# Altium footprint library Misc.TH.PcbLib: 66 footprints (part 4 of 5)
Each footprint in its own frame and in the unit in brackets; x right, y up, seen from the top. Pads: shape width x height; smd on the part's side, far side on the other; paste and mask are expansions set on the pad; w line width, h text height; cw(c..) or ccw(c..) is an arc to the next point about the centre after c.
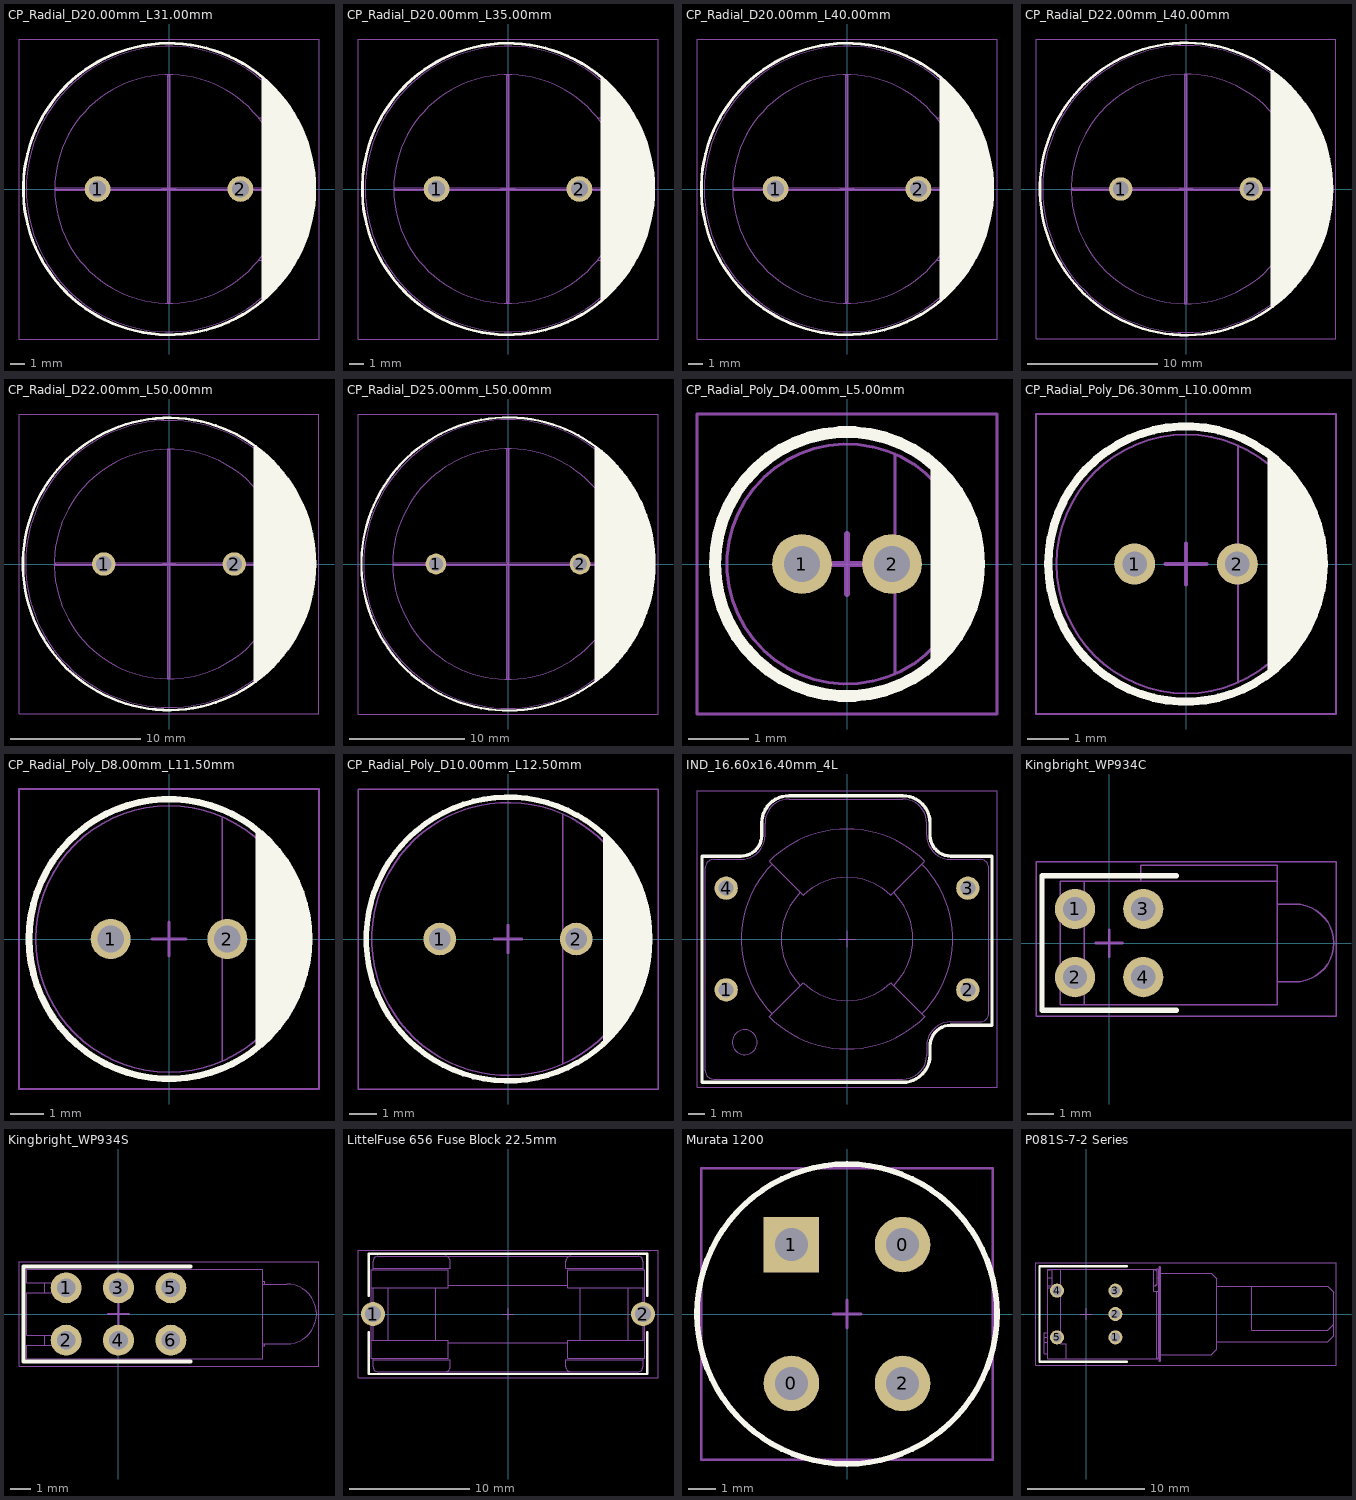
[diagram p3: the footprints below, top view; thin cyan lines are the x and y axes]

## CP_Radial_D20.00mm_L31.00mm [mm] "Radial Capacitor, Diameter 20.00mm, Length 31.00mm, Pitch 10.00mm"
height 31
pads (2):
  round 1.8 hole 1.2: 1(-5,0) 2(5,0)
Top Overlay:
  circle w0.2: c0,0 r10.2
  region: 6.5,7.8 6.5,-7.9 6.846,-7.615 7.485,-6.985 8.066,-6.301 8.585,-5.57 9.037,-4.795 9.42,-3.983 9.73,-3.141 9.964,-2.275 10.121,-1.392 10.2,-0.499 10.2,0.399 10.121,1.292 9.964,2.175 9.73,3.041 9.42,3.883 9.037,4.695 8.585,5.47 8.066,6.201 7.485,6.885 6.846,7.515
Mechanical 1:
  circle w0.05: c0,0 r8
  circle w0.05: c0,0 r10
  lines w0.05: 6.245,-5 8.078,-5 8.66,-5 ; 6.245,5 8.078,5 8.66,5 ; -7.9,0 -7.999,-0.1 -0.1,-0.1 ; -7.9,0 -7.999,0.1 -0.1,0.1 ; -7.9,0 7.9,0 ; -0.1,-0.1 -0.1,-7.999 0,-7.9 ; -0.1,-0.1 0.1,0.1 ; -0.1,0.1 0.1,-0.1 ; -0.1,0.1 -0.1,7.999 0,7.9 ; 0,-7.9 0.1,-7.999 0.1,-0.1 ; 0,-7.9 0,7.9 ; 0,7.9 0.1,7.999 0.1,0.1 ; 0.1,-0.1 7.999,-0.1 7.9,0 ; 0.1,0.1 7.999,0.1 7.9,0
Mechanical 15:
  lines w0.05: -10.5,-10.5 10.5,-10.5 10.5,10.5 -10.5,10.5 -10.5,-10.5
  lines w0.1: -0.5,0 0.5,0 ; 0,-0.5 0,0.5
3D body "Capacitor_Radial_D20.00mm_L31.00mm_P10.00mm.STEP": height 31, standoff -3.2, extent -9.983,-10 10,10

## CP_Radial_D20.00mm_L35.00mm [mm] "Radial Capacitor, Diameter 20.00mm, Length 35.00mm, Pitch 10.00mm"
height 35
pads (2):
  round 1.8 hole 1.2: 1(-5,0) 2(5,0)
Top Overlay:
  circle w0.2: c0,0 r10.2
  region: 6.5,7.8 6.5,-7.9 6.846,-7.615 7.485,-6.985 8.066,-6.301 8.585,-5.57 9.037,-4.795 9.42,-3.983 9.73,-3.141 9.964,-2.275 10.121,-1.392 10.2,-0.499 10.2,0.399 10.121,1.292 9.964,2.175 9.73,3.041 9.42,3.883 9.037,4.695 8.585,5.47 8.066,6.201 7.485,6.885 6.846,7.515
Mechanical 1:
  circle w0.05: c0,0 r10
  circle w0.05: c0,0 r8
  lines w0.05: 6.245,-5 8.078,-5 8.66,-5 ; 6.245,5 8.078,5 8.66,5 ; -7.9,0 7.9,0 ; -7.9,0 -7.999,0.1 -0.1,0.1 ; -7.9,0 -7.999,-0.1 -0.1,-0.1 ; -0.1,-0.1 0.1,0.1 ; -0.1,-0.1 -0.1,-7.999 0,-7.9 ; -0.1,0.1 -0.1,7.999 0,7.9 ; -0.1,0.1 0.1,-0.1 ; 0,-7.9 0,7.9 ; 0,-7.9 0.1,-7.999 0.1,-0.1 ; 0,7.9 0.1,7.999 0.1,0.1 ; 0.1,-0.1 7.999,-0.1 7.9,0 ; 0.1,0.1 7.999,0.1 7.9,0
Mechanical 15:
  lines w0.05: -10.5,-10.5 -10.5,10.5 10.5,10.5 10.5,-10.5 -10.5,-10.5
  lines w0.1: -0.5,0 0.5,0 ; 0,-0.5 0,0.5
3D body "Capacitor_Radial_D20.00mm_L35.00mm_P10.00mm.STEP": height 35, standoff -3.2, extent -10,-10 9.998,10

## CP_Radial_D20.00mm_L40.00mm [mm] "Radial Capacitor, Diameter 20.00mm, Length 40.00mm, Pitch 10.00mm"
height 40
pads (2):
  round 1.8 hole 1.2: 1(-5,0) 2(5,0)
Top Overlay:
  circle w0.2: c0,0 r10.2
  region: 6.5,7.8 6.5,-7.9 6.846,-7.615 7.485,-6.985 8.066,-6.301 8.585,-5.57 9.037,-4.795 9.42,-3.983 9.73,-3.141 9.964,-2.275 10.121,-1.392 10.2,-0.499 10.2,0.399 10.121,1.292 9.964,2.175 9.73,3.041 9.42,3.883 9.037,4.695 8.585,5.47 8.066,6.201 7.485,6.885 6.846,7.515
Mechanical 1:
  circle w0.05: c0,0 r8
  circle w0.05: c0,0 r10
  lines w0.05: 6.245,-5 8.078,-5 8.66,-5 ; 6.245,5 8.078,5 8.66,5 ; -7.9,0 -7.999,-0.1 -0.1,-0.1 ; -7.9,0 -7.999,0.1 -0.1,0.1 ; -7.9,0 7.9,0 ; -0.1,-0.1 -0.1,-7.999 0,-7.9 ; -0.1,-0.1 0.1,0.1 ; -0.1,0.1 0.1,-0.1 ; -0.1,0.1 -0.1,7.999 0,7.9 ; 0,-7.9 0.1,-7.999 0.1,-0.1 ; 0,-7.9 0,7.9 ; 0,7.9 0.1,7.999 0.1,0.1 ; 0.1,-0.1 7.999,-0.1 7.9,0 ; 0.1,0.1 7.999,0.1 7.9,0
Mechanical 15:
  lines w0.05: -10.5,-10.5 10.5,-10.5 10.5,10.5 -10.5,10.5 -10.5,-10.5
  lines w0.1: -0.5,0 0.5,0 ; 0,-0.5 0,0.5
3D body "Capacitor_Radial_D20.00mm_L40.00mm_P10.00mm.STEP": height 40, standoff -3.2, extent -10,-10 10,10

## CP_Radial_D22.00mm_L40.00mm [mm] "Radial Capacitor, Diameter 22.00mm, Length 40.00mm, Pitch 10.00mm"
height 40
pads (2):
  round 1.8 hole 1.2: 1(-5,0) 2(5,0)
Top Overlay:
  circle w0.2: c0,0 r11.2
  region: 6.5,9.1 6.5,-9.1 6.934,-8.792 7.74,-8.096 8.476,-7.326 9.135,-6.489 9.711,-5.594 10.2,-4.648 10.596,-3.66 10.897,-2.638 11.099,-1.592 11.2,-0.532 11.2,0.532 11.099,1.592 10.897,2.638 10.596,3.66 10.2,4.648 9.711,5.594 9.135,6.489 8.476,7.326 7.74,8.096 6.934,8.792
Mechanical 1:
  circle w0.05: c0,0 r11
  circle w0.05: c0,0 r8.8
  lines w0.05: 6.869,-5.5 8.886,-5.5 9.526,-5.5 ; 6.869,5.5 8.886,5.5 9.526,5.5 ; -8.7,0 8.7,0 ; -8.7,0 -8.799,0.1 -0.1,0.1 ; -8.7,0 -8.799,-0.1 -0.1,-0.1 ; -0.1,-0.1 0.1,0.1 ; -0.1,-0.1 -0.1,-8.799 0,-8.7 ; -0.1,0.1 -0.1,8.799 0,8.7 ; -0.1,0.1 0.1,-0.1 ; 0,-8.7 0,8.7 ; 0,-8.7 0.1,-8.799 0.1,-0.1 ; 0,8.7 0.1,8.799 0.1,0.1 ; 0.1,-0.1 8.799,-0.1 8.7,0 ; 0.1,0.1 8.799,0.1 8.7,0
Mechanical 15:
  lines w0.05: -11.5,-11.5 -11.5,11.5 11.5,11.5 11.5,-11.5 -11.5,-11.5
  lines w0.1: -0.5,0 0.5,0 ; 0,-0.5 0,0.5
3D body "Capacitor_Radial_D22.00mm_L40.00mm_P10.00mm.STEP": height 40, standoff -3.2, extent -11,-11 11,11

## CP_Radial_D22.00mm_L50.00mm [mm] "Radial Capacitor, Diameter 22.00mm, Length 50.00mm, Pitch 10.00mm"
height 50
pads (2):
  round 1.8 hole 1.2: 1(-5,0) 2(5,0)
Top Overlay:
  circle w0.2: c0,0 r11.2
  region: 6.5,9.1 6.5,-9.1 6.934,-8.792 7.74,-8.096 8.476,-7.326 9.135,-6.489 9.711,-5.594 10.2,-4.648 10.596,-3.66 10.897,-2.638 11.099,-1.592 11.2,-0.532 11.2,0.532 11.099,1.592 10.897,2.638 10.596,3.66 10.2,4.648 9.711,5.594 9.135,6.489 8.476,7.326 7.74,8.096 6.934,8.792
Mechanical 1:
  circle w0.05: c0,0 r11
  circle w0.05: c0,0 r8.8
  lines w0.05: 6.869,-5.5 8.886,-5.5 9.526,-5.5 ; 6.869,5.5 8.886,5.5 9.526,5.5 ; -8.7,0 8.7,0 ; -8.7,0 -8.799,0.1 -0.1,0.1 ; -8.7,0 -8.799,-0.1 -0.1,-0.1 ; -0.1,-0.1 0.1,0.1 ; -0.1,-0.1 -0.1,-8.799 0,-8.7 ; -0.1,0.1 -0.1,8.799 0,8.7 ; -0.1,0.1 0.1,-0.1 ; 0,-8.7 0,8.7 ; 0,-8.7 0.1,-8.799 0.1,-0.1 ; 0,8.7 0.1,8.799 0.1,0.1 ; 0.1,-0.1 8.799,-0.1 8.7,0 ; 0.1,0.1 8.799,0.1 8.7,0
Mechanical 15:
  lines w0.05: -11.5,-11.5 -11.5,11.5 11.5,11.5 11.5,-11.5 -11.5,-11.5
  lines w0.1: -0.5,0 0.5,0 ; 0,-0.5 0,0.5
3D body "Capacitor_Radial_D22.00mm_L50.00mm_P10.00mm.STEP": height 50, standoff -3.2, extent -10.974,-11 11,11

## CP_Radial_D25.00mm_L50.00mm [mm] "Radial Capacitor, Diameter 25.00mm, Length 50.00mm, Pitch 12.50mm"
height 50
pads (2):
  round 1.8 hole 1.2: 1(-6.25,0) 2(6.25,0)
Top Overlay:
  circle w0.2: c0,0 r12.7
  region: 7.5,10.2 7.5,-10.2 7.901,-9.909 8.655,-9.266 9.356,-8.565 9.999,-7.812 10.582,-7.011 11.1,-6.166 11.55,-5.283 11.929,-4.368 12.236,-3.425 12.467,-2.462 12.622,-1.483 12.7,-0.495 12.7,0.495 12.622,1.483 12.467,2.462 12.236,3.425 11.929,4.368 11.55,5.283 11.1,6.166 10.582,7.011 9.999,7.812 9.356,8.565 8.655,9.266 7.901,9.909
Mechanical 1:
  circle w0.05: c0,0 r10
  circle w0.05: c0,0 r12.5
  lines w0.05: 7.806,-6.25 10.097,-6.25 10.825,-6.25 ; 7.806,6.25 10.097,6.25 10.825,6.25 ; -9.9,0 -9.999,-0.1 -0.1,-0.1 ; -9.9,0 -9.999,0.1 -0.1,0.1 ; -9.9,0 9.9,0 ; -0.1,-0.1 -0.1,-9.999 0,-9.9 ; -0.1,-0.1 0.1,0.1 ; -0.1,0.1 0.1,-0.1 ; -0.1,0.1 -0.1,9.999 0,9.9 ; 0,-9.9 0.1,-9.999 0.1,-0.1 ; 0,-9.9 0,9.9 ; 0,9.9 0.1,9.999 0.1,0.1 ; 0.1,-0.1 9.999,-0.1 9.9,0 ; 0.1,0.1 9.999,0.1 9.9,0
Mechanical 15:
  lines w0.05: -13,-13 -13,13 13,13 13,-13 -13,-13
  lines w0.1: -0.5,0 0.5,0 ; 0,-0.5 0,0.5
3D body "Capacitor_Radial_D25.00mm_L50.00mm_P12.50mm.STEP": height 50, standoff -3.2, extent -12.484,-12.5 12.5,12.5

## CP_Radial_Poly_D4.00mm_L5.00mm [mm] "Radial Polymer Capacitor, Diameter 4.00mm, Length 5.00mm, Pitch 1.50mm"
height 5
pads (2):
  round 1 hole 0.6: 1(-0.75,0) 2(0.75,0)
Top Overlay:
  circle w0.2: c0,0 r2.2
  region: 1.4,1.7 1.525,1.597 1.742,1.356 1.921,1.086 2.059,0.793 2.153,0.483 2.2,0.162 2.2,-0.162 2.153,-0.483 2.059,-0.793 1.921,-1.086 1.742,-1.356 1.525,-1.597 1.4,-1.7
Mechanical 1:
  circle w0.05: c0,0 r2
  lines w0.05: 0.8,-1.833 0.8,-1.831 0.8,-1.827 0.8,-1.81 0.8,-1.784 0.8,-1.751 0.8,-1.723 0.8,1.723 0.8,1.752 0.8,1.789 0.8,1.816 0.8,1.83 0.8,1.833
Mechanical 15:
  lines w0.05: -2.5,-2.5 2.5,-2.5 2.5,2.5 -2.5,2.5 -2.5,-2.5
  lines w0.1: -0.5,0 0.5,0 ; 0,-0.5 0,0.5
3D body "Capacitor_Radial_Poly_D4.00mm_L5.00mm_P1.5mm.STEP": height 5, standoff -3.2, extent -1.995,-2 1.995,2

## CP_Radial_Poly_D6.30mm_L10.00mm [mm] "Radial Polymer Capacitor, Diameter 6.30mm, Length 10.00mm, Pitch 2.50mm"
height 10
pads (2):
  round 1 hole 0.6: 1(-1.25,0) 2(1.25,0)
Top Overlay:
  circle w0.2: c0,0 r3.35
  region: 1.994,2.692 2.204,2.537 2.57,2.165 2.874,1.74 3.109,1.274 3.269,0.777 3.35,0.261 3.35,-0.261 3.269,-0.777 3.109,-1.274 2.874,-1.74 2.57,-2.165 2.204,-2.537 1.994,-2.692
Mechanical 1:
  circle w0.05: c0,0 r3.15
  lines w0.05: 1.26,-2.887 1.26,-2.714 1.26,2.714 1.26,2.887
Mechanical 15:
  lines w0.05: -3.65,-3.65 -3.65,3.65 3.65,3.65 3.65,-3.65 -3.65,-3.65
  lines w0.1: -0.5,0 0.5,0 ; 0,-0.5 0,0.5
3D body "Capacitor_Radial_Poly_D6.30mm_L10.00mm_P2.5mm.STEP": height 10, standoff -3.2, extent -3.15,-3.15 3.15,3.15

## CP_Radial_Poly_D8.00mm_L11.50mm [mm] "Radial Capacitor, Diameter 8.00mm, Length 11.50mm, Pitch 3.50mm"
height 11.5
pads (2):
  round 1.2 hole 0.8: 1(-1.75,0) 2(1.75,0)
Top Overlay:
  circle w0.2: c0,0 r4.2
  region: 2.599,3.299 2.848,3.103 3.281,2.641 3.64,2.118 3.917,1.548 4.105,0.943 4.2,0.317 4.2,-0.317 4.105,-0.943 3.917,-1.548 3.64,-2.118 3.281,-2.641 2.848,-3.103 2.599,-3.299
Mechanical 1:
  circle w0.05: c0,0 r4
  lines w0.05: 1.6,-3.666 1.6,-3.447 1.6,3.447 1.6,3.666
Mechanical 15:
  lines w0.05: -4.5,-4.5 -4.5,4.5 4.5,4.5 4.5,-4.5 -4.5,-4.5
  lines w0.1: -0.5,0 0.5,0 ; 0,-0.5 0,0.5
3D body "Capacitor_Radial_Poly_D8.00mm_L11.50mm_P3.5mm.STEP": height 11.5, standoff -3.2, extent -4,-4 4,4

## CP_Radial_Poly_D10.00mm_L12.50mm [mm] "Radial Capacitor, Diameter 10.00mm, Length 12.50mm, Pitch 5.00mm"
height 12.5
pads (2):
  round 1.2 hole 0.8: 1(-2.5,0) 2(2.5,0)
Top Overlay:
  circle w0.2: c0,0 r5.2
  region: 3.5,3.8 3.767,3.561 4.229,3.014 4.609,2.408 4.902,1.755 5.1,1.067 5.2,0.358 5.2,-0.358 5.1,-1.067 4.902,-1.755 4.609,-2.408 4.229,-3.014 3.767,-3.561 3.5,-3.8
Mechanical 1:
  circle w0.05: c0,0 r5
  lines w0.05: 2,-4.583 2,-4.308 2,4.308 2,4.583
Mechanical 15:
  lines w0.05: -5.5,-5.5 -5.5,5.5 5.5,5.5 5.5,-5.5 -5.5,-5.5
  lines w0.1: -0.5,0 0.5,0 ; 0,-0.5 0,0.5
3D body "Capacitor_Radial_Poly_D10.00mm_L12.50mm_P3.5mm.STEP": height 12.5, standoff -3.2, extent -4.994,-5 4.995,5

## IND_16.60x16.40mm_4L [mm] "TH Inductor Footprint, 16.60x16.40mm, 4-Lead"
height 12.5
pads (4):
  round 1.4 hole 0.9: 1(-7.25,-3.05) 2(7.25,-3.05) 3(7.25,3.05) 4(-7.25,3.05)
Top Overlay:
  lines w0.2: 3.344,-8.602 ccw(c3.344,-6.962) 4.984,-6.962 ; 3.346,-8.6 -8.7,-8.6 -8.7,4.973 -6.359,4.973 ccw(c-6.359,6.213) -5.119,6.213 -5.119,6.958 cw(c-3.479,6.958) -3.479,8.598 3.344,8.598 cw(c3.344,6.958) 4.984,6.958 4.984,6.958 4.984,6.213 ccw(c6.224,6.213) 6.224,4.973 8.7,4.973 8.7,-5.173 6.224,-5.173 ccw(c6.224,-6.413) 4.984,-6.413 4.984,-6.962
Mechanical 1:
  circle w0.05: c-6.138,-6.192 r0.75
  lines w0.05: -4.49,-4.49 cw(c0,0) -4.49,4.49 ; -2.793,-2.793 cw(c0,0) -2.793,2.793 ; 2.793,-2.793 ccw(c0,0) 2.793,2.793 ; 4.49,-4.49 ccw(c0,0) 4.49,4.49 ; -8.5,-7.894 ccw(c-7.992,-7.894) -7.992,-8.402 3.344,-8.402 ccw(c3.344,-6.962) 4.784,-6.962 4.784,-6.413 cw(c6.224,-6.413) 6.224,-4.973 7.992,-4.973 ccw(c7.992,-4.465) 8.5,-4.465 8.5,4.265 ccw(c7.992,4.265) 7.992,4.773 6.224,4.773 cw(c6.224,6.213) 4.784,6.213 4.784,6.958 ccw(c3.344,6.958) 3.344,8.398 -3.479,8.398 ccw(c-3.479,6.958) -4.919,6.958 -4.919,6.213 cw(c-6.359,6.213) -6.359,4.773 -7.992,4.773 ccw(c-7.992,4.265) -8.5,4.265 -8.5,-7.894 ; -4.667,-4.667 ccw(c0,0) 4.667,-4.667 2.616,-2.616 cw(c0,0) -2.616,-2.616 -4.667,-4.667 ; -4.667,4.667 cw(c0,0) 4.667,4.667 2.616,2.616 ccw(c0,0) -2.616,2.616 -4.667,4.667
Mechanical 15:
  lines w0.05: -0.5,0 0.5,0 ; 0,-0.5 0,0.5 ; -9,-8.9 -9,8.9 9,8.9 9,-8.9 -9,-8.9
3D body "tck_113_3d_drawing.STEP": height 12.5, standoff -6, extent -8.5,-8.402 8.5,8.398

## Kingbright_WP934C [mm]
pads (4):
  round 1.5 hole 0.9: 1(-1.27,1.27) 2(-1.27,-1.27) 3(1.27,1.27) 4(1.27,-1.27)
Top Overlay:
  lines w0.2: 2.5,-2.5 -2.5,-2.5 -2.5,2.5 2.5,2.5
Mechanical 1:
  lines w0.05: -1.52,-1.52 -1.52,-1.02 ; -1.52,1.02 -1.52,1.52 ; 1.17,2.3 1.17,2.9 6.27,2.9 6.27,2.3 ; 6.27,-1.45 6.92,-1.45 ccw(c6.92,0) 8.37,0 ccw(c6.92,0) 6.92,1.45 6.27,1.45 ; -0.93,-2.3 -0.93,2.3 ; -0.93,-2.3 6.27,-2.3 6.27,2.3 ; -0.93,-2.3 -1.83,-2.3 -1.83,-1.52 -1.02,-1.52 -1.02,-1.02 -1.83,-1.02 -1.83,1.02 -1.02,1.02 -1.02,1.52 -1.83,1.52 -1.83,2.3 -0.93,2.3 ; -0.93,2.3 6.27,2.3
Mechanical 15:
  lines w0.05: -2.725,-2.725 -2.725,3.025 8.45,3.025 8.45,-2.725 -2.725,-2.725
  lines w0.1: -0.5,0 0.5,0 ; 0,-0.5 0,0.5
3D body "934CA.STEP": height 9.85, standoff -2.95, extent -1.83,-2.3 8.37,2.9

## Kingbright_WP934S [mm]
pads (6):
  round 1.5 hole 0.9: 1(-2.54,1.27) 2(-2.54,-1.27) 3(0,1.27) 4(0,-1.27) 5(2.54,1.27) 6(2.54,-1.27)
Top Overlay:
  lines w0.2: 3.5,-2.3 -4.6,-2.3 -4.6,2.3 3.5,2.3
Mechanical 1:
  lines w0.05: -3.575,-1.52 -3.575,-1.02 ; -3.575,1.02 -3.575,1.52 ; -2.795,-1.52 -2.795,-1.02 ; -2.795,1.02 -2.795,1.52 ; 6.985,-1.538 7.085,-1.538 7.085,-1.45 ; 6.985,-1.45 8.155,-1.45 ccw(c8.155,0) 9.605,0 ccw(c8.155,0) 8.155,1.45 6.985,1.45 ; 6.985,1.577 7.085,1.577 7.085,1.45 ; -4.445,-2.16 6.985,-2.16 6.985,2.16 -4.445,2.16 -4.445,1.52 -2.295,1.52 -2.295,1.02 -4.445,1.02 -4.445,-1.02 -2.295,-1.02 -2.295,-1.52 -4.445,-1.52 -4.445,-2.16
Mechanical 15:
  lines w0.05: -4.825,-2.525 -4.825,2.525 9.725,2.525 9.725,-2.525 -4.825,-2.525
  lines w0.1: -0.5,0 0.5,0 ; 0,-0.5 0,0.5
3D body "934SA.STEP": height 15.24, standoff -3.5, extent -4.445,-2.16 9.605,2.16

## LittelFuse 656 Fuse Block 22.5mm [mm] "LittleFuse 656 Fuse Block, 22.5mm Pitch"
height 11.5
pads (2):
  round 2 hole 1.3: 1(-11.25,0) 2(11.25,0)
Top Overlay:
  lines w0.2: -11.6,-1.5 -11.6,-5 11.6,-5 11.6,-1.5 ; -11.6,1.52 -11.6,5.02 11.6,5.02 11.6,1.52
Mechanical 1:
  circle w0.05: c-11.25,0 r0.001
  lines w0.05: -11.4,-2.2 -4.971,-2.2 -4.971,-3.7 -11.4,-3.7 -11.4,3.7 -4.971,3.7 -4.971,2.2 -11.4,2.2 ; -11.25,-3.8 -4.821,-3.8 -4.821,-4.4 cw(c-5.221,-4.4) -5.221,-4.8 ; -11.25,-3.7 -11.25,-4.4 ccw(c-10.85,-4.4) -10.85,-4.8 10.85,-4.8 ccw(c10.85,-4.4) 11.25,-4.4 11.25,-3.7 ; -11.25,-2.2 -11.25,-0.001 ; -11.25,-0.01 cw(c-11.25,0) -11.25,0.01 ; -11.25,0.001 -11.25,2.2 ; -11.25,3.7 -11.25,4.4 cw(c-10.85,4.4) -10.85,4.8 10.85,4.8 cw(c10.85,4.4) 11.25,4.4 11.25,3.7 ; -11.25,3.8 -4.821,3.8 -4.821,4.4 ccw(c-5.221,4.4) -5.221,4.8 ; -10,-2.197 -10,2.197 ; -6,-2.2 -6,2.2 ; -4.971,-2.4 4.971,-2.4 ; -4.971,2.4 4.971,2.4 ; 5.221,-4.8 cw(c5.221,-4.4) 4.821,-4.4 4.821,-3.8 11.25,-3.8 ; 5.221,4.8 ccw(c5.221,4.4) 4.821,4.4 4.821,3.8 11.25,3.8 ; 6,-2.2 6,2.2 ; 10,-2.198 10,2.198 ; 11.25,-2.2 11.25,2.2 ; 11.4,-2.2 4.971,-2.2 4.971,-3.7 11.4,-3.7 11.4,3.7 4.971,3.7 4.971,2.2 11.4,2.2
Mechanical 15:
  lines w0.05: -12.5,-5.3 -12.5,5.3 12.5,5.3 12.5,-5.3 -12.5,-5.3
  lines w0.1: -0.5,0 0.5,0 ; 0,-0.5 0,0.5
3D body "FuseHolder_656_with_Fuse.STEP": height 11.5, standoff -4, extent -11.4,-4.8 11.4,4.8

## Murata 1200 [mm]
pads (4):
  round 2 hole 1.2: 0(-2,-2.5) 0(2,2.5) 2(2,-2.5)
  rect 2x2 hole 1.2: 1(-2,2.5)
Top Overlay:
  circle w0.2: c0,0 r5.4
Mechanical 1:
  lines w0.1: -5.25,-5.25 5.25,-5.25 5.25,5.25 -5.25,5.25 -5.25,-5.25
Mechanical 15:
  lines w0.1: -0.5,0 0.5,0 ; 0,-0.5 0,0.5
3D body "User Library-1200RS.step": height 10.5, standoff -2.5, extent -5.25,-5.25 5.25,5.25

## P081S-7-2 Series [mm] "P081S Potentiometer, 7.00mm Bushing, 15.00mm Flattend Shaft"
height 9.35
pads (5):
  round 1.2 hole 0.8: 1(2.5,-2) 2(2.5,0) 3(2.5,2) 4(-2.5,2) 5(-2.5,-2)
Top Overlay:
  lines w0.2: 3.5,-4.1 -4,-4.1 -4,4.1 3.5,4.1
Mechanical 1:
  lines w0.05: -3.6,-2.4 -3.3,-2.4 ; -3.6,-2 -3.3,-2 ; -3.3,-3.4 -3.6,-3.4 -3.6,-1.6 -3.3,-1.6 ; -3.3,2.25 -2.9,2.25 -2.9,3.85 ; -3.3,2.4 -2.9,2.4 ; -3.3,3.1 -2.9,3.1 ; -3.3,3.8 -2.9,3.8 ; -2.2,3.85 -2.2,-2.55 -1.7,-2.55 -1.7,-3.85 ; 5.8,3.8 cw(c5.8,3.5) 6.1,3.5 6.1,2.7 ; 5.8,3.85 5.8,1.95 6.2,1.95 ; 6.05,1.95 6.05,-3.85 ; 6.1,3.1 6.2,3.1 ; 6.2,-3.5 10.7,-3.5 11.2,-3 11.2,3 10.7,3.5 6.2,3.5 ; 11.2,-2.375 20.7,-2.375 21.2,-1.875 21.2,1.875 ; 11.2,2.375 14.2,2.375 14.2,-1.388 20.7,-1.388 21.2,-0.888 ; 14.2,2.363 20.7,2.363 21.188,1.875 ; 6.05,-3.85 ccw(c6.05,-3.7) 6.2,-3.7 6.2,3.7 ccw(c6.05,3.7) 6.05,3.85 -3.3,3.85 -3.3,-3.85 6.05,-3.85 ; 6.1,2.7 cw(c5.8,2.7) 5.8,2.4 ccw(c5.8,2.7) 6.1,2.7
Mechanical 5:
  lines w0.2: 6.3,-4 6.3,4
  text "Board Edge" at 5.8,-2.885 h0.75
Mechanical 15:
  lines w0.05: -4.3,-4.4 21.4,-4.4 21.4,4.4 -4.3,4.4 -4.3,-4.4
  lines w0.1: -0.5,0 0.5,0 ; 0,-0.5 0,0.5
3D body "P081S-71F2CAR10K.STEP": height 9.35, standoff -3, extent -3.8,-3.85 21.2,3.85